# EAGLE library part LMP8601 (library BMC components)
LMP8601/LMP8601Q 60V Common Mode, Bidirectional Precision Current Sensing Amplifier Datasheet: http://www.ti.com/lit/ds/symlink/lmp8601.pdf Product page: http://www.ti.com/product/lmp8601 UPDATED 12/5/2012: Corrected SOIC8 pinout. Designs relying on this device before this revision will be incorrect and must be updated.
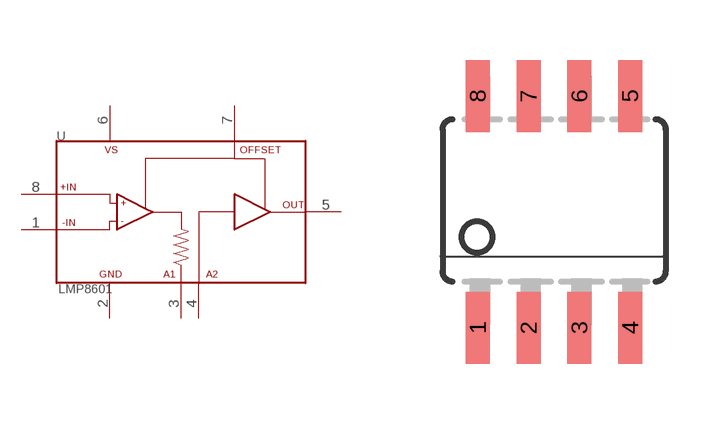
[diagram p8: symbol with the pads of SOIC8; footprint SOIC8]

Designator prefix -

## LMP8601  [SOIC8]
1  -IN
2  GND  pwr
3  A1
4  A2
5  OUT
6  VS  pwr
7  OFFSET
8  +IN

## Footprint SOIC8 (pad centres in mm)
SOIC-8/SO-8 This package is a bit wonky because it seems like different manufacturers make their devices in different widths? So the pads here are sized to be long enough to fit the SOIC-8 footprint here <http://glacier.lbl.gov/gtp/DOM/dataSheets/soic8_dim.pdf>, as well as the TI SO-8 footprint. edit 2013-12-27: not anymore, I shortened the pads -abk Be sure to check the width of your component before using this package!!!!
smd 0.6 x 1.8: 1 0.5,-2.9; 2 1.77,-2.9; 3 3.04,-2.9; 4 4.31,-2.9; 5 4.31,2.9; 6 3.04,2.9; 7 1.77,2.9; 8 0.5,2.9